# EAGLE library part RPI3-FLIPPED (library cdp)
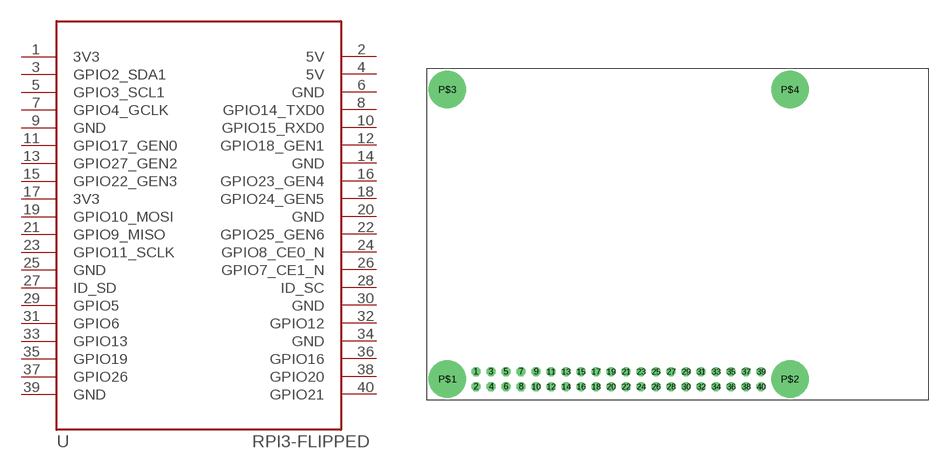
[diagram p37: symbol with the pads of RPI3-FLIPPED; footprint RPI3-FLIPPED]

Designator prefix U

## RPI3-FLIPPED  [RPI3-FLIPPED]
1  3V3
2  5V
3  GPIO2_SDA1
4  5V
5  GPIO3_SCL1
6  GND
7  GPIO4_GCLK
8  GPIO14_TXD0
9  GND
10  GPIO15_RXD0
11  GPIO17_GEN0
12  GPIO18_GEN1
13  GPIO27_GEN2
14  GND
15  GPIO22_GEN3
16  GPIO23_GEN4
17  3V3
18  GPIO24_GEN5
19  GPIO10_MOSI
20  GND
21  GPIO9_MISO
22  GPIO25_GEN6
23  GPIO11_SCLK
24  GPIO8_CE0_N
25  GND
26  GPIO7_CE1_N
27  ID_SD
28  ID_SC
29  GPIO5
30  GND
31  GPIO6
32  GPIO12
33  GPIO13
34  GND
35  GPIO19
36  GPIO16
37  GPIO26
38  GPIO20
39  GND
40  GPIO21

## Footprint RPI3-FLIPPED (pad centres in mm)
drill 1.016 octagon: 1 8.37,4.77; 2 8.37,2.23; 3 10.91,4.77; 4 10.91,2.23; 5 13.45,4.77; 6 13.45,2.23; 7 15.99,4.77; 8 15.99,2.23; 9 18.53,4.77; 10 18.53,2.23; 11 21.07,4.77; 12 21.07,2.23; 13 23.61,4.77; 14 23.61,2.23; 15 26.15,4.77; 16 26.15,2.23; 17 28.69,4.77; 18 28.69,2.23; 19 31.23,4.77; 20 31.23,2.23; 21 33.77,4.77; 22 33.77,2.23; 23 36.31,4.77; 24 36.31,2.23; 25 38.85,4.77; 26 38.85,2.23; 27 41.39,4.77; 28 41.39,2.23; 29 43.93,4.77; 30 43.93,2.23; 31 46.47,4.77; 32 46.47,2.23; 33 49.01,4.77; 34 49.01,2.23; 35 51.55,4.77; 36 51.55,2.23; 37 54.09,4.77; 38 54.09,2.23; 39 56.63,4.77; 40 56.63,2.23
drill 2.794 pad 6.35 round: P$1 3.5,3.5; P$2 61.5,3.5; P$3 3.5,52.5; P$4 61.5,52.5